# EAGLE library part MDC3105DMT1 (library EW_Electro_Mechanical)
Integrated Relay, Inductive Load Driver Sopurce: U6 OnSemi Inductive Load Driver MDC3105-D.PDF
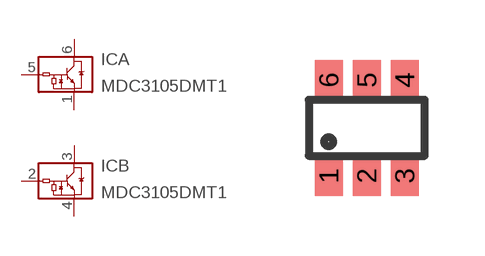
[diagram p57: symbol with the pads of SC-74; footprint SC-74]

Designator prefix IC; gates A=NPN-DRIVER-1 B=NPN-DRIVER-1

## MDC3105DMT1 (MPN: MDC3105DMT1G; OC_FARNELL: unknown; OC_NEWARK: 04R7836)  [SC-74]
1  A:GND  pas
2  B:VIN  pas
3  B:VOUT  pas
4  B:GND  pas
5  A:VIN  pas
6  A:VOUT  pas

## Footprint SC-74 (pad centres in mm)
Small Outline Transistor; 6 leads SC-74 CASE 318F-05 ISSUE M Source: U6 OnSemi Inductive Load Driver MDC3105-D.PDF
smd 0.7 x 1: 1 -0.95,-1.2; 2 0,-1.2; 3 0.95,-1.2; 4 0.95,1.2; 5 0,1.2; 6 -0.95,1.2